# EAGLE library part TPH1R204PL1,LQ (library TPH1R204PL1_LQ)
N-Channel 40V 150A (Tc) 960mW (Ta), 170W (Tc) Surface Mount 8-SOP Source: Datasheet <https://toshiba.semicon-storage.com/info/docget.jsp?did=69120&prodName=TPH1R204PL1>
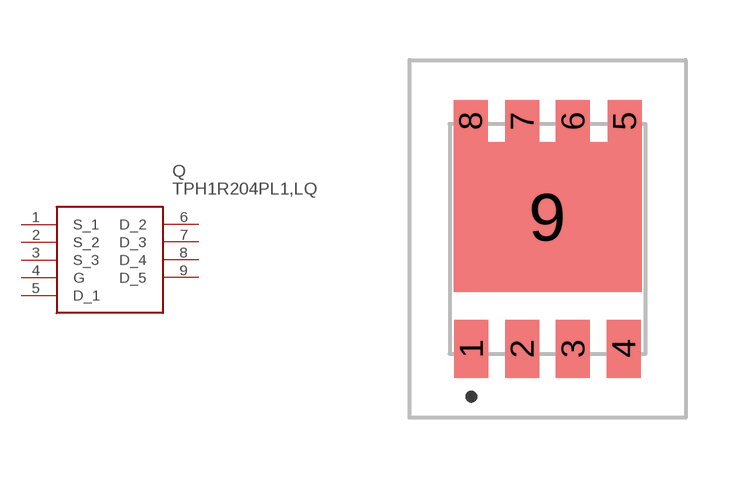
[diagram p0: symbol with the pads of TPH1R204PL1LQ; footprint TPH1R204PL1LQ]

Designator prefix Q

## TPH1R204PL1,LQ (Description: N-Channel 40V 150A (Tc) 960mW (Ta), 170W (Tc) Surface Mount 8-SOP; Height: 1.1mm; Manufacturer_Name: Toshiba; Manufacturer_Part_Number: TPH1R204PL1,LQ; Mouser_Part_Number: 757-TPH1R204PL1LQ; Mouser_Price-Stock: https://www.mouser.co.uk/ProductDetail/Toshiba/TPH1R204PL1LQ?qs=QNEnbhJQKvYFRTuBxmYUXQ%3D%3D)  [TPH1R204PL1LQ]
1  S_1
2  S_2
3  S_3
4  G
5  D_1
6  D_2
7  D_3
8  D_4
9  D_5

## Footprint TPH1R204PL1LQ (pad centres in mm)
TPH1R204PL1,LQ-5
smd 0.85 x 1.45: 1 -1.905,-2.75; 2 -0.635,-2.75; 3 0.635,-2.75; 4 1.905,-2.75
smd 0.85 x 1.05: 5 1.925,2.95; 6 0.635,2.95; 7 -0.635,2.95; 8 -1.925,2.95
smd 4.7 x 3.75: 9 0,0.55